# EAGLE library part WH1602A-TMI-ST# (library Winstar)
Winstar LCD display. 16 characters x 2 lines
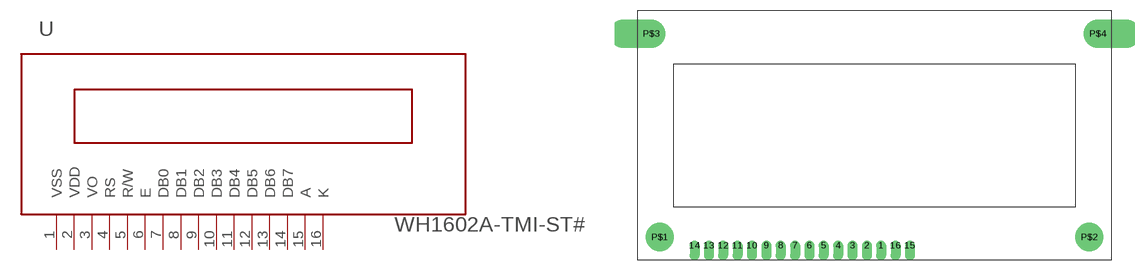
[diagram p0: symbol with the pads of UNICO; footprint UNICO]

Designator prefix -

## WH1602A-TMI-ST#  [UNICO]
1  VSS
2  VDD
3  VO
4  RS
5  R/W
6  E
7  DB0
8  DB1
9  DB2
10  DB3
11  DB4
12  DB5
13  DB6
14  DB7
15  A
16  K

## Footprint UNICO (pad centres in mm)
drill 1 pad 1.778 offset: 1 43.18,2.54; 2 40.64,2.54; 3 38.1,2.54; 4 35.56,2.54; 5 33.02,2.54; 6 30.48,2.54; 7 27.94,2.54; 8 25.4,2.54; 9 22.86,2.54; 10 20.32,2.54; 11 17.78,2.54; 12 15.24,2.54; 13 12.7,2.54; 14 10.16,2.54; 15 48.26,2.54; 16 45.72,2.54
drill 2.5 pad 5: P$1 4,4; P$2 80,4
drill 2.5 pad 5 offset: P$3 2.5,40; P$4 81.5,40